# Altium footprint library ADIS16201.PcbLib: 1 footprints
Each footprint in its own frame and in the unit in brackets; x right, y up, seen from the top. Pads: shape width x height; smd on the part's side, far side on the other; paste and mask are expansions set on the pad; w line width, h text height; cw(c..) or ccw(c..) is an arc to the next point about the centre after c.
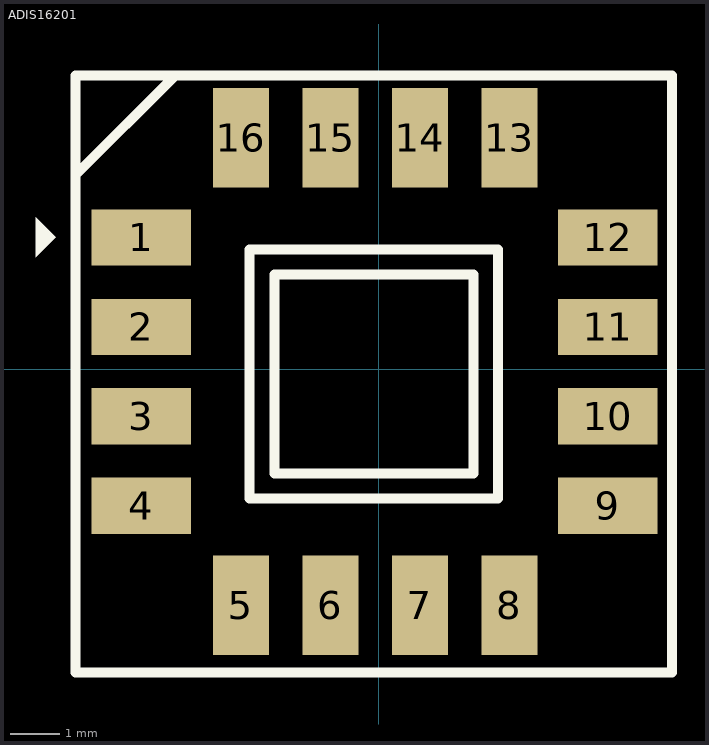
[diagram p0: the footprint, top view; thin cyan lines are the x and y axes]

## ADIS16201 [mm]
pads (16):
  rect 2x1.127 smd: 1(-4.775,2.65) 2(-4.775,0.85) 3(-4.775,-0.95) 4(-4.775,-2.75) 9(4.6,-2.75) 10(4.6,-0.95) 11(4.6,0.85) 12(4.6,2.65)
  rect 1.127x2 smd: 5(-2.775,-4.75) 6(-0.975,-4.75) 7(0.825,-4.75) 8(2.625,-4.75) 13(2.625,4.65) 14(0.825,4.65) 15(-0.975,4.65) 16(-2.775,4.65)
Top Overlay:
  region: -6.9,2.25 -6.9,3.05 -6.5,2.65
  lines w0.2: -6.1,3.9 -4.1,5.9 ; -6.1,-6.1 -6.1,5.9 5.9,5.9 5.9,-6.1 -6.1,-6.1 ; -2.6,-2.6 -2.6,-2.35 -2.6,2.4 2.4,2.4 2.4,-2.6 -2.6,-2.6 ; -2.1,-2.1 -2.1,1.9 1.9,1.9 1.9,-2.1 -2.1,-2.1
3D body "adis_16201.STEP": height 3.96, standoff 0, extent -4.65,-4.65 4.65,4.65